# EAGLE library part UCC3917P (library wheat)
HOTSWAP CONTROLLER, UCC3917, DIP16
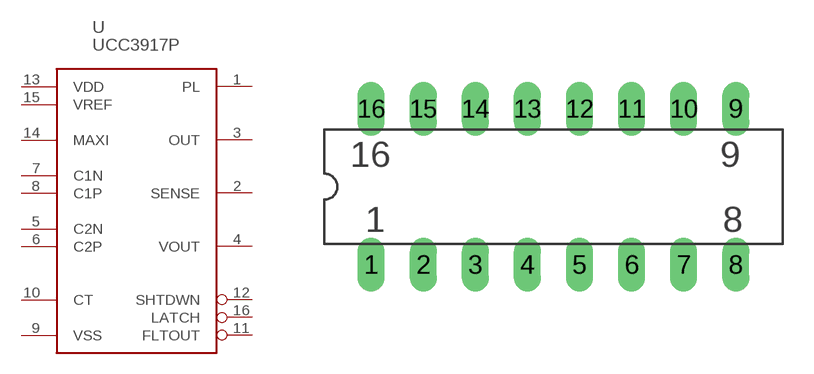
[diagram p54: symbol with the pads of DIP16; footprint DIP16]

Designator prefix U

## UCC3917P'''  [DIP16]
1  PL
2  SENSE
3  OUT
4  VOUT
5  C2N
6  C2P
7  C1N
8  C1P
9  VSS
10  CT
11  FLTOUT
12  SHTDWN
13  VDD
14  MAXI
15  VREF
16  LATCH

## Footprint DIP16 (pad centres in mm)
DIP16 .3LS
drill 0.813 long: 1 0,0; 2 2.54,0; 3 5.08,0; 4 7.62,0; 5 10.16,0; 6 12.7,0; 7 15.24,0; 8 17.78,0; 9 17.78,7.62; 10 15.24,7.62; 11 12.7,7.62; 12 10.16,7.62; 13 7.62,7.62; 14 5.08,7.62; 15 2.54,7.62; 16 0,7.62